# Altium schematic symbol library TMP1075.Schlib: 1 symbol
Pins are listed as number, name and electrical type; pins without a type are passive.

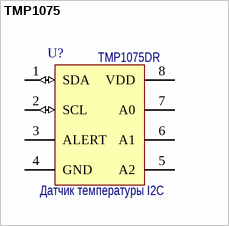
[diagram p0: symbol TMP1075]

## TMP1075
designator U?  Назначение: Датчик температуры I2C  Наименование: TMP1075DR  (hidden comment: TMP1075)
TMP1075 Temperature Sensor With I2C and SMBus Interface; Потребление, Вт: 0,001; ComponentLink1Description: Datasheet; ComponentLink1URL: http://www.ti.com/lit/ds/symlink/tmp1075.pdf
footprint SOIC-8
pins: 1 SDA (io), 2 SCL (io), 3 ALERT (oc), 4 GND (power), 5 A2, 6 A1, 7 A0, 8 VDD (power)